# EAGLE library part MMDT3946 (library mmdt3946)
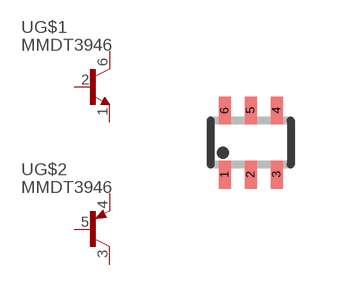
[diagram p0: symbol with the pads of SOT-363; footprint SOT-363]

Designator prefix -; gates G$1=NPN G$2=PNP

## MMDT3946  [SOT-363]
1  G$1:E  pas
2  G$1:B  pas
3  G$2:C  pas
4  G$2:E  pas
5  G$2:B  pas
6  G$1:C  pas

## Footprint SOT-363 (pad centres in mm)
Small Outline Transistor; 6 leads Reflow soldering INFINEON, www.infineon.com/cmc_upload/0/000/010/257/eh_db_5b.pdf
smd 0.3 x 0.7: 1 -0.65,-0.8; 2 0,-0.8; 3 0.65,-0.8; 4 0.65,0.8; 5 0,0.8; 6 -0.65,0.8